# Altium schematic symbol library LCB78_05-0.5.SchLib: 1 symbol
Pins are listed as number, name and electrical type; pins without a type are passive.

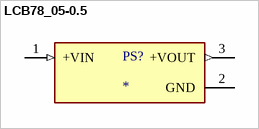
[diagram p0: symbol LCB78_05-0.5]

## LCB78_05-0.5
designator PS?
MF: {'manufacturer': u'GAPTEC Electronic'}; MP: LCB78_05-0.5; Package: None; Price: None; Value: *; Availability: Unavailable
footprint CONV_LCB78_05-0.5
pins: 1 +VIN (in), 2 GND (power), 3 +VOUT (out)